# Altium integrated library MAXREFDES117_.IntLib: 1 symbol
Pins are listed as number, name and electrical type; pins without a type are passive.

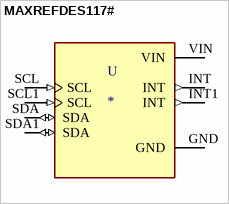
[diagram p0: symbol MAXREFDES117#]

## MAXREFDES117#
designator U
MAX1921, MAX14595, MAX30102 - Medical, Pulse Oximeter (PO or SpO2) Sensor Evaluation Board; MP: MAXREFDES117#; MF: Maxim Integrated; Price: None; Availability: Unavailable; Value: *; Mouser-Purchase-URL: https://snapeda.com/shop?store=Mouser&id=585423; DigiKey-Purchase-URL: https://snapeda.com/shop?store=DigiKey&id=585423; SnapEDA_Link: https://www.snapeda.com/parts/MAXREFDES117%23/Maxim%20Integrated/view-part/585423/?ref=snap; Package: None
footprint MODULE_MAXREFDES117#
pins: GND (power), INT (out), INT1 INT (out), SCL (in), SCL1 SCL (in), SDA (io), SDA1 SDA (io), VIN (power)